# Altium footprint library VALIX.PcbLib: 48 footprints (part 3 of 3)
Each footprint in its own frame and in the unit in brackets; x right, y up, seen from the top. Pads: shape width x height; smd on the part's side, far side on the other; paste and mask are expansions set on the pad; w line width, h text height; cw(c..) or ccw(c..) is an arc to the next point about the centre after c.
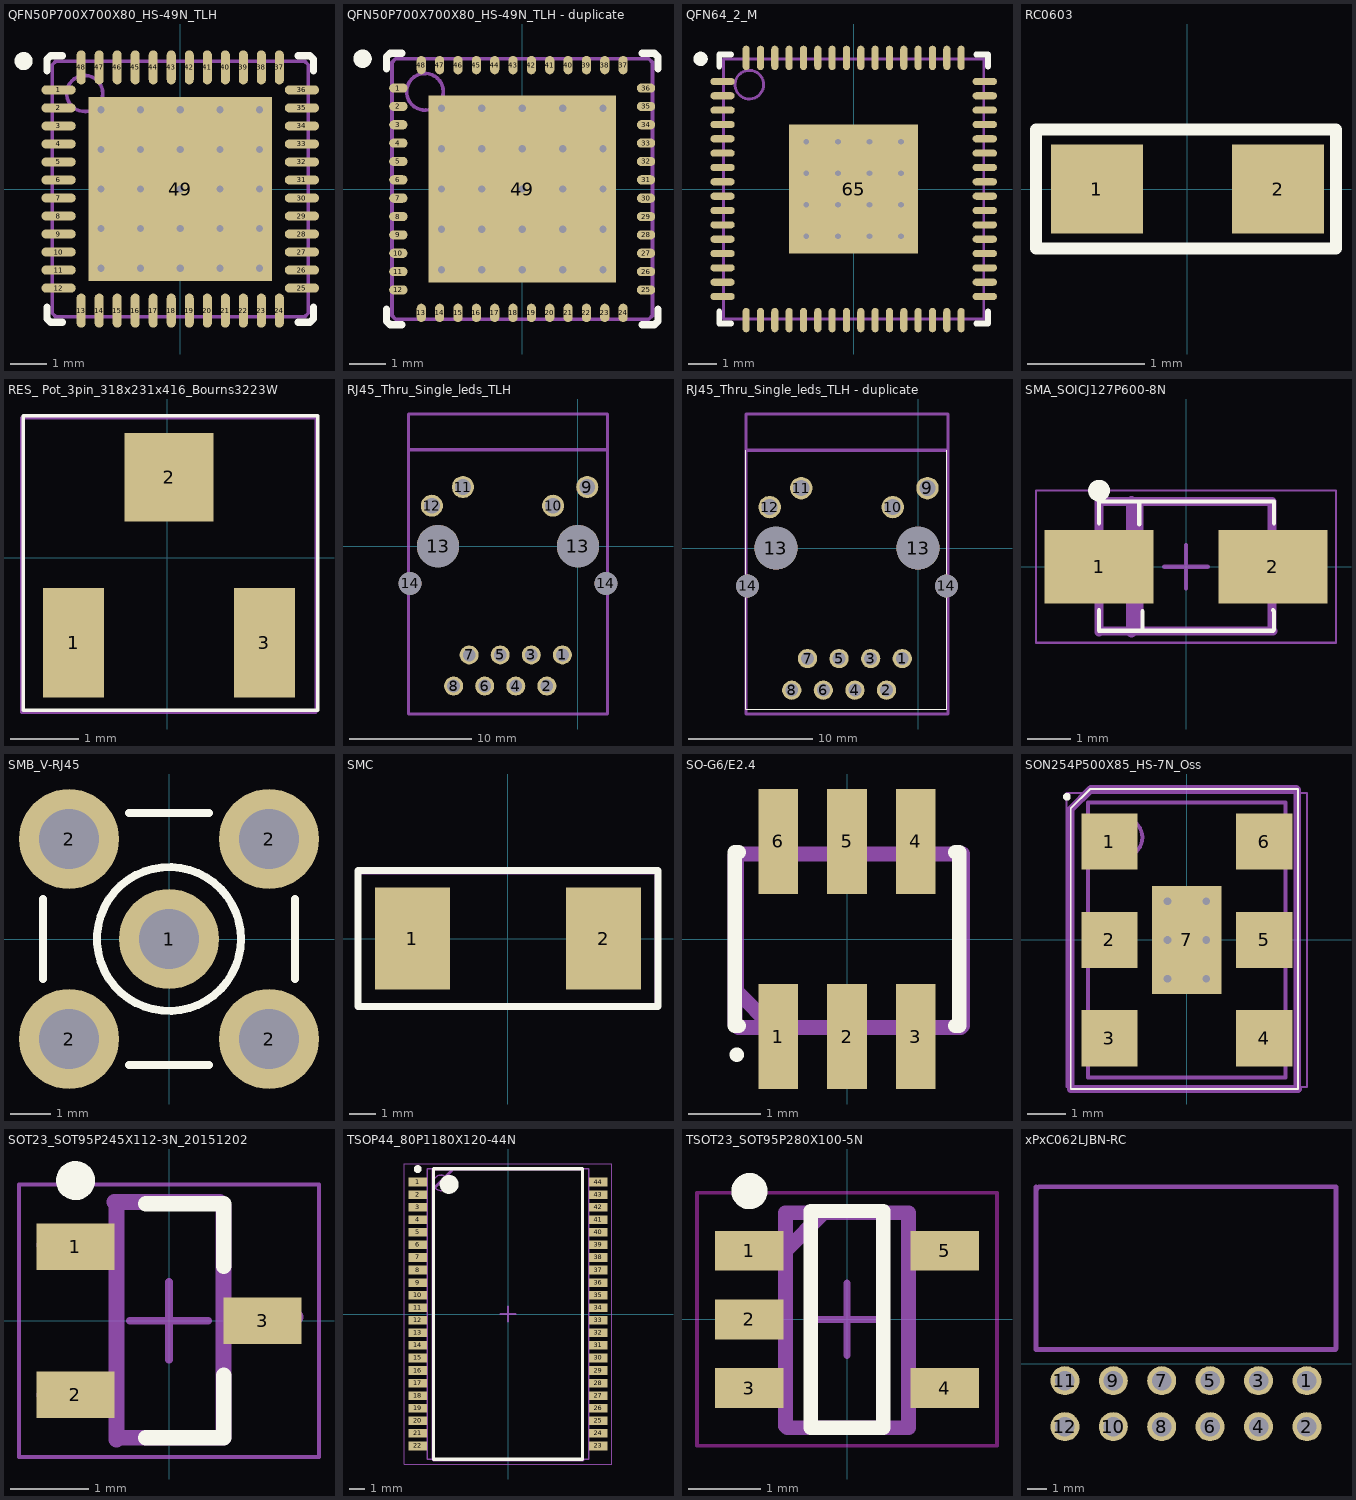
[diagram p2: the footprints below, top view; thin cyan lines are the x and y axes]

## QFN50P700X700X80_HS-49N_TLH [mm] "QFN, 48-Leads, Body 7.00x7.00mm, Pitch 0.50mm, Thermal Pad 5.10x5.10mm, IPC Medium Density"
height 0.8
pads (49):
  oval 0.95x0.25 smd: 1(-3.375,2.75) 2(-3.375,2.25) 3(-3.375,1.75) 4(-3.375,1.25) 5(-3.375,0.75) 6(-3.375,0.25) 7(-3.375,-0.25) 8(-3.375,-0.75) 9(-3.375,-1.25) 10(-3.375,-1.75) 11(-3.375,-2.25) 12(-3.375,-2.75) 25(3.375,-2.75) 26(3.375,-2.25) 27(3.375,-1.75) 28(3.375,-1.25) 29(3.375,-0.75) 30(3.375,-0.25) 31(3.375,0.25) 32(3.375,0.75) 33(3.375,1.25) 34(3.375,1.75) 35(3.375,2.25) 36(3.375,2.75)
  oval 0.25x0.95 smd: 13(-2.75,-3.375) 14(-2.25,-3.375) 15(-1.75,-3.375) 16(-1.25,-3.375) 17(-0.75,-3.375) 18(-0.25,-3.375) 19(0.25,-3.375) 20(0.75,-3.375) 21(1.25,-3.375) 22(1.75,-3.375) 23(2.25,-3.375) 24(2.75,-3.375) 37(2.75,3.375) 38(2.25,3.375) 39(1.75,3.375) 40(1.25,3.375) 41(0.75,3.375) 42(0.25,3.375) 43(-0.25,3.375) 44(-0.75,3.375) 45(-1.25,3.375) 46(-1.75,3.375) 47(-2.25,3.375) 48(-2.75,3.375)
  rect 5.1x5.1 smd: 49(0,0)
via 2.2,-2.2 diameter 0.5 hole 0.2
via 1.1,-2.2 diameter 0.5 hole 0.2
via 0,-2.2 diameter 0.5 hole 0.2
via -1.1,-2.2 diameter 0.5 hole 0.2
via -2.2,-2.2 diameter 0.5 hole 0.2
via 2.2,-1.1 diameter 0.5 hole 0.2
via 1.1,-1.1 diameter 0.5 hole 0.2
via 0,-1.1 diameter 0.5 hole 0.2
via -1.1,-1.1 diameter 0.5 hole 0.2
via -2.2,-1.1 diameter 0.5 hole 0.2
via 2.2,0 diameter 0.5 hole 0.2
via 1.1,0 diameter 0.5 hole 0.2
via 0,0 diameter 0.5 hole 0.2
via -1.1,0 diameter 0.5 hole 0.2
via -2.2,0 diameter 0.5 hole 0.2
via 2.2,1.1 diameter 0.5 hole 0.2
via 1.1,1.1 diameter 0.5 hole 0.2
via 0,1.1 diameter 0.5 hole 0.2
via -1.1,1.1 diameter 0.5 hole 0.2
via -2.2,1.1 diameter 0.5 hole 0.2
via 2.2,2.2 diameter 0.5 hole 0.2
via 1.1,2.2 diameter 0.5 hole 0.2
via 0,2.2 diameter 0.5 hole 0.2
via -1.1,2.2 diameter 0.5 hole 0.2
via -2.2,2.2 diameter 0.5 hole 0.2
Top Overlay:
  circle w0.25: c-4.35,3.55 r0.125
  lines w0.2: -3.7,-3.275 -3.7,-3.6 -3.6,-3.7 -3.275,-3.7 ; -3.7,3.275 -3.7,3.6 -3.6,3.7 -3.275,3.7 ; 3.275,-3.7 3.6,-3.7 3.7,-3.6 3.7,-3.275 ; 3.275,3.7 3.6,3.7 3.7,3.6 3.7,3.275
Mech 13 3D:
  circle w0.1: c-2.65,2.65 r0.5
  lines w0.1: -3.55,-3.45 -3.55,3.45 -3.45,3.55 3.45,3.55 3.55,3.45 3.55,-3.45 3.45,-3.55 -3.45,-3.55 -3.55,-3.45
Mech 15 Keepout:
  lines w0.1: -0.5,0 0.5,0 ; 0,-0.5 0,0.5
3D body: height 0.8, standoff 0.1, extent -3.55,-3.55 3.55,3.55

## QFN50P700X700X80_HS-49N_TLH - duplicate [mm] "QFN, 48-Leads, Body 7.00x7.00mm, Pitch 0.50mm, Thermal Pad 5.10x5.10mm, IPC Medium Density"
height 0.8
pads (49):
  oval 0.5x0.25 smd: 1(-3.375,2.75) 2(-3.375,2.25) 3(-3.375,1.75) 4(-3.375,1.25) 5(-3.375,0.75) 6(-3.375,0.25) 7(-3.375,-0.25) 8(-3.375,-0.75) 9(-3.375,-1.25) 10(-3.375,-1.75) 11(-3.375,-2.25) 12(-3.375,-2.75) 25(3.375,-2.75) 26(3.375,-2.25) 27(3.375,-1.75) 28(3.375,-1.25) 29(3.375,-0.75) 30(3.375,-0.25) 31(3.375,0.25) 32(3.375,0.75) 33(3.375,1.25) 34(3.375,1.75) 35(3.375,2.25) 36(3.375,2.75)
  oval 0.25x0.5 smd: 13(-2.75,-3.375) 14(-2.25,-3.375) 15(-1.75,-3.375) 16(-1.25,-3.375) 17(-0.75,-3.375) 18(-0.25,-3.375) 19(0.25,-3.375) 20(0.75,-3.375) 21(1.25,-3.375) 22(1.75,-3.375) 23(2.25,-3.375) 24(2.75,-3.375) 37(2.75,3.375) 38(2.25,3.375) 39(1.75,3.375) 40(1.25,3.375) 41(0.75,3.375) 42(0.25,3.375) 43(-0.25,3.375) 44(-0.75,3.375) 45(-1.25,3.375) 46(-1.75,3.375) 47(-2.25,3.375) 48(-2.75,3.375)
  rect 5.1x5.1 smd: 49(0,0)
via -2.2,2.2 diameter 0.5 hole 0.2
via -1.1,2.2 diameter 0.5 hole 0.2
via 0,2.2 diameter 0.5 hole 0.2
via 1.1,2.2 diameter 0.5 hole 0.2
via 2.2,2.2 diameter 0.5 hole 0.2
via -2.2,1.1 diameter 0.5 hole 0.2
via -1.1,1.1 diameter 0.5 hole 0.2
via 0,1.1 diameter 0.5 hole 0.2
via 1.1,1.1 diameter 0.5 hole 0.2
via 2.2,1.1 diameter 0.5 hole 0.2
via -2.2,0 diameter 0.5 hole 0.2
via -1.1,0 diameter 0.5 hole 0.2
via 0,0 diameter 0.5 hole 0.2
via 1.1,0 diameter 0.5 hole 0.2
via 2.2,0 diameter 0.5 hole 0.2
via -2.2,-1.1 diameter 0.5 hole 0.2
via -1.1,-1.1 diameter 0.5 hole 0.2
via 0,-1.1 diameter 0.5 hole 0.2
via 1.1,-1.1 diameter 0.5 hole 0.2
via 2.2,-1.1 diameter 0.5 hole 0.2
via -2.2,-2.2 diameter 0.5 hole 0.2
via -1.1,-2.2 diameter 0.5 hole 0.2
via 0,-2.2 diameter 0.5 hole 0.2
via 1.1,-2.2 diameter 0.5 hole 0.2
via 2.2,-2.2 diameter 0.5 hole 0.2
Top Overlay:
  circle w0.25: c-4.35,3.55 r0.125
  lines w0.2: -3.7,-3.275 -3.7,-3.6 -3.6,-3.7 -3.275,-3.7 ; -3.7,3.275 -3.7,3.6 -3.6,3.7 -3.275,3.7 ; 3.275,-3.7 3.6,-3.7 3.7,-3.6 3.7,-3.275 ; 3.275,3.7 3.6,3.7 3.7,3.6 3.7,3.275
Mech 13 3D:
  circle w0.1: c-2.65,2.65 r0.5
  lines w0.1: -3.55,-3.45 -3.45,-3.55 3.45,-3.55 3.55,-3.45 3.55,3.45 3.45,3.55 -3.45,3.55 -3.55,3.45 -3.55,-3.45
Mech 15 Keepout:
  lines w0.1: -0.5,0 0.5,0 ; 0,-0.5 0,0.5
3D body: height 0.8, standoff 0.1, extent -3.55,-3.55 3.55,3.55

## QFN64_2_M [mm] "QFN, 64-Leads, Body 9x9mm, Pitch 0.5mm, Thermal Pad 4.5x4.5mm, IPC Low Density"
height 1
pads (65):
  oval 0.85x0.25 smd: 1(-4.575,3.75) 2(-4.575,3.25) 3(-4.575,2.75) 4(-4.575,2.25) 5(-4.575,1.75) 6(-4.575,1.25) 7(-4.575,0.75) 8(-4.575,0.25) 9(-4.575,-0.25) 10(-4.575,-0.75) 11(-4.575,-1.25) 12(-4.575,-1.75) 13(-4.575,-2.25) 14(-4.575,-2.75) 15(-4.575,-3.25) 16(-4.575,-3.75) 33(4.575,-3.75) 34(4.575,-3.25) 35(4.575,-2.75) 36(4.575,-2.25) 37(4.575,-1.75) 38(4.575,-1.25) 39(4.575,-0.75) 40(4.575,-0.25) 41(4.575,0.25) 42(4.575,0.75) 43(4.575,1.25) 44(4.575,1.75) 45(4.575,2.25) 46(4.575,2.75) 47(4.575,3.25) 48(4.575,3.75)
  oval 0.25x0.85 smd: 17(-3.75,-4.575) 18(-3.25,-4.575) 19(-2.75,-4.575) 20(-2.25,-4.575) 21(-1.75,-4.575) 22(-1.25,-4.575) 23(-0.75,-4.575) 24(-0.25,-4.575) 25(0.25,-4.575) 26(0.75,-4.575) 27(1.25,-4.575) 28(1.75,-4.575) 29(2.25,-4.575) 30(2.75,-4.575) 31(3.25,-4.575) 32(3.75,-4.575) 49(3.75,4.575) 50(3.25,4.575) 51(2.75,4.575) 52(2.25,4.575) 53(1.75,4.575) 54(1.25,4.575) 55(0.75,4.575) 56(0.25,4.575) 57(-0.25,4.575) 58(-0.75,4.575) 59(-1.25,4.575) 60(-1.75,4.575) 61(-2.25,4.575) 62(-2.75,4.575) 63(-3.25,4.575) 64(-3.75,4.575)
  rect 4.5x4.5 smd: 65(0,0)
via -1.65,1.65 diameter 0.5 hole 0.2
via -0.55,1.65 diameter 0.5 hole 0.2
via 0.55,1.65 diameter 0.5 hole 0.2
via 1.65,1.65 diameter 0.5 hole 0.2
via -1.65,0.55 diameter 0.5 hole 0.2
via -0.55,0.55 diameter 0.5 hole 0.2
via 0.55,0.55 diameter 0.5 hole 0.2
via 1.65,0.55 diameter 0.5 hole 0.2
via -1.65,-0.55 diameter 0.5 hole 0.2
via -0.55,-0.55 diameter 0.5 hole 0.2
via 0.55,-0.55 diameter 0.5 hole 0.2
via 1.65,-0.55 diameter 0.5 hole 0.2
via -1.65,-1.65 diameter 0.5 hole 0.2
via -0.55,-1.65 diameter 0.5 hole 0.2
via 0.55,-1.65 diameter 0.5 hole 0.2
via 1.65,-1.65 diameter 0.5 hole 0.2
Top Overlay:
  circle w0.25: c-5.34,4.54 r0.125
  lines w0.2: -4.69,-4.275 -4.69,-4.69 -4.275,-4.69 ; -4.69,4.275 -4.69,4.69 -4.275,4.69 ; 4.275,-4.69 4.69,-4.69 4.69,-4.275 ; 4.275,4.69 4.69,4.69 4.69,4.275
Mech 13 3D:
  circle w0.1: c-3.64,3.64 r0.5
  lines w0.1: -4.54,-4.54 -4.54,4.54 4.54,4.54 4.54,-4.54 -4.54,-4.54
Mech 15 Keepout:
  lines w0.1: -0.5,0 0.5,0 ; 0,-0.5 0,0.5
3D body: height 1, standoff 0, extent -4.54,-4.54 4.54,4.54

## RC0603 [mil]
height 60
pads (2):
  rect 31x30 smd: 1(-30.5,0) 2(30.5,0)
Top Overlay:
  lines w3.94: -51,20 -51,-5 -51,-20 50,-20 50,20 27.5,20 -27.5,20 -50,20
3D body "MCT 0603.stp": height 17.72, standoff 0, extent -30.02,-18 31,15.46

## RES_ Pot_3pin_318x231x416_Bourns3223W [mm]
height 4
pads (3):
  rect 0.9x1.6 smd: 1(-1.375,-1.25) 3(1.425,-1.25)
  rect 1.3x1.3 smd: 2(0.025,1.18)
Top Overlay:
  lines w0.05: -2.112,-2.241 2.206,-2.241 2.206,2.077 -2.112,2.077 -2.112,-2.241
Assy Top:
  lines w0.05: -2.137,-2.266 -2.137,2.052 2.181,2.052 2.181,-2.266 -2.137,-2.266
3D body "3223W.stp": height 4.19, standoff 0.01, extent -1.898,-1.875 1.998,1.64

## RJ45_Thru_Single_leds_TLH [mil]
pads (16):
  round 61.02 hole 40.94: 1(-50,-350) 2(-100,-450) 3(-150,-350) 4(-200,-450) 5(-250,-350) 6(-300,-450) 7(-350,-350) 8(-400,-450)
  round 71 hole 51: 9(30,190) 10(-80,130) 11(-370,190) 12(-470,130)
  round 136 hole 136 unplated: 13(-450,0) 13(0,0)
  round 73 hole 73 unplated: 14(-540,-120) 14(90,-120)
Mechanical 1:
  lines w10: -545,310 -545,425 95,425 95,310 ; -545,310 -545,-540 95,-540 95,310 ; -545,310 95,310

## RJ45_Thru_Single_leds_TLH - duplicate [mil]
pads (16):
  round 61.02 hole 40.94: 1(-50,-350) 2(-100,-450) 3(-150,-350) 4(-200,-450) 5(-250,-350) 6(-300,-450) 7(-350,-350) 8(-400,-450)
  round 71 hole 51: 9(30,190) 10(-80,130) 11(-370,190) 12(-470,130)
  round 136 hole 136 unplated: 13(-450,0) 13(0,0)
  round 73 hole 73 unplated: 14(-540,-120) 14(90,-120)
Top Overlay:
  lines w3.94: -546.26,310.04 -546.26,-510.83 90.55,-510.83 90.55,310.04
Mechanical 1:
  lines w10: -545,310 95,310 ; -545,310 -545,-525.59 95,-525.59 95,310 ; -545,310 -545,425 95,425 95,310

## SMA_SOICJ127P600-8N [mm] "SMA Diode"
height 2.5
pads (2):
  rect 2.5x1.7 smd: 1(-2,0) 2(2,0)
Top Overlay:
  circle w0.25: c-2,1.75 r0.125
  lines w0.1: -2,-1 -2,-1.475 2,-1.475 2.025,-1.45 2.025,-1.025 2,-1 ; -2,1 -2,1.55 -1.95,1.5 2.025,1.5 2.025,1 ; -1.075,0.975 -1.075,1.5 ; -1,-1.45 -1,-1.025
Mechanical 1:
  lines w0.254: -1.25,-1.5 -1.25,1.5
Assy Top:
  lines w0.203: -1.075,-1.4 -1.075,1.5 ; -2,-1.5 -2,1.475 -1.975,1.5 1.975,1.5 1.975,-1.45 2,-1.475 -1.975,-1.475 -2,-1.5
  text ".Designator" at -0.775,-0.15 h0.51
Mech 13 3D:
  lines w0.1: -2,-1.5 2,-1.5 2,1.5 1.875,1.5 -0.125,1.5 -2,1.5 -2,-1.5
Mech 15 Keepout:
  lines w0.05: -3.45,-1.75 3.45,-1.75 3.45,1.75 -3.45,1.75 -3.45,-1.75
  lines w0.1: -0.5,0 0.5,0 ; 0,-0.5 0,0.5
3D body "Diode SMA.stp": height 2.41, standoff 0, extent -2.53,-1.46 2.75,1.46

## SMB_V-RJ45 [mm] "Connector; SMB Straight"
pads (5):
  round 2.5 hole 1.5: 1(0,0) 2(-2.5,-2.5) 2(-2.5,2.5) 2(2.5,-2.5) 2(2.5,2.5)
Top Overlay:
  circle w0.2: c0,0 r1.8
  lines w0.2: -3.15,-1 -3.15,1 ; -1,-3.15 1,-3.15 ; -1,3.15 1,3.15 ; 3.15,-1 3.15,1
Mechanical 1:
  circle w0.025: c0,0 r1.8
  circle w0.025: c0,0 r1.05
  circle w0.025: c0,0 r0.2

## SMC [mil]
pads (2):
  rect 110x150 smd: 1(-140.49,0) 2(140.49,0)
Top Overlay:
  lines w10: -220.49,-100 220.49,-100 220.49,100 -220.49,100 -220.49,0 -220.49,-100
Assy Top:
  lines w8: -220.47,96.46 -220.47,-100.39 -219.49,-101.38 219.49,-101.38 219.49,99.41 218.5,98.43 -218.5,98.43
  text ".Designator" at -146.65,3.94 h50
3D body: height 0, standoff 0, extent -199.49,-79 199.49,79
3D body: height 0, standoff 0, extent -225.49,-105 225.49,105

## SO-G6/E2.4 [mm] "Small Outline; 6 Leads; Body 3.6 x 3.6 mm, inc. leads (LxW max)"
height 1.4
pads (6):
  rect 0.55x1.45 smd: 1(-0.95,-1.35) 2(0,-1.35) 3(0.95,-1.35) 4(0.95,1.35) 5(0,1.35) 6(-0.95,1.35)
Top Overlay:
  circle w0.1: c-1.525,-1.6 r0.05
  lines w0.2: -1.5,-1.2 -1.55,-1.2 -1.55,1.2 -1.5,1.2 ; 1.5,-1.2 1.55,-1.2 1.55,1.2 1.5,1.2
Assy Top:
  lines w0.203: -1.025,-1.275 -1.025,-1.225 -1.525,-0.725 -1.525,1.175 ; -1.525,1.175 1.6,1.175 1.6,-1.2 1.575,-1.225 -1.5,-1.225 -1.55,-1.175 -1.55,1.15 -1.525,1.175
  text ".Designator" at -1.15,-0.225 h0.51
3D body "sot-23-6.stp": height 1.12, standoff 0, extent -1.461,-1.622 1.461,1.222

## SON254P500X85_HS-7N_Oss [mm] "SON, 6-Leads, Body 7.00x5.00mm, Pitch 2.54mm, Thermal Pad 2.80x1.80mm, IPC Medium Density"
height 0.85
pads (7):
  rect 1.45x1.45 smd: 1(-2,2.54) 2(-2,0) 3(-2,-2.54) 4(2,-2.54) 5(2,0) 6(2,2.54)
  rect 1.8x2.8 smd: 7(0,0)
via -0.5,1 diameter 0.5 hole 0.2
via 0.5,1 diameter 0.5 hole 0.2
via -0.5,0 diameter 0.5 hole 0.2
via 0.5,0 diameter 0.5 hole 0.2
via -0.5,-1 diameter 0.5 hole 0.2
via 0.5,-1 diameter 0.5 hole 0.2
Top Overlay:
  circle w0.1: c-3.1,3.7 r0.05
  lines w0.05: -3,-3.85 2.875,-3.85 2.875,3.9 -2.5,3.9 -3,3.4 -3,3.375 -3,-3.85
Assy Top:
  lines w0.203: -3,-3.85 2.875,-3.85 2.85,-3.825 2.85,3.875 2.825,3.9 -2.475,3.9 -3,3.375 -3,-3.85
  text ".Designator" at -2.2,1.175 h1.27
Mech 13 3D:
  circle w0.1: c-1.65,2.65 r0.5
  lines w0.1: -2.55,-3.55 -2.55,3.55 2.55,3.55 2.55,-3.55 -2.55,-3.55
Mech 15 Keepout:
  lines w0.05: -3.105,-3.8 -3.105,3.8 3.105,3.8 3.105,-3.8 -3.105,-3.8
  lines w0.1: -0.5,0 0.5,0 ; 0,-0.5 0,0.5
3D body: height 0.85, standoff 0.01, extent -2.55,-3.55 2.55,3.55

## SOT23_SOT95P245X112-3N_20151202 [mm] "SOT23, 3-Leads, Body 2.92x2.45mm, Pitch 0.95mm, IPC Medium Density"
height 1.12
pads (3):
  rect 1x0.6 smd: 1(-1.2,0.95) 2(-1.2,-0.95) 3(1.2,0)
Top Overlay:
  circle w0.25: c-1.2,1.8 r0.125
  lines w0.2: -0.3,-1.5 0.7,-1.5 0.7,-0.7 ; -0.3,1.5 0.7,1.5 0.7,0.7
Assy Top:
  lines w0.203: -1.6,-0.95 -0.675,-0.95 ; -1.6,0.975 -0.725,0.975 ; 0.725,0.05 1.625,0.05 ; -0.7,1.525 -0.675,1.5 -0.675,-1.525 -0.65,-1.5 0.7,-1.5 0.7,1.475 0.65,1.525 -0.7,1.525
  text ".Designator" at -1.55,-2.3 h0.51
Mech 13 3D:
  lines w0.1: -0.7,-1.52 -0.7,1.52 0.7,1.52 0.7,-1.52 -0.7,-1.52
Mech 15 Keepout:
  lines w0.05: -1.925,-1.75 -1.925,1.75 1.925,1.75 1.925,-1.75 -1.925,-1.75
  lines w0.1: -0.5,0 0.5,0 ; 0,-0.5 0,0.5
3D body: height 1.12, standoff 0.1, extent -0.7,-1.52 0.7,1.52
3D body "SOT23-3.stp": height 1.2, standoff 0.02, extent -1.343,-1.525 1.493,1.475

## TSOP44_80P1180X120-44N [mm] "TSOP, 44-Leads, Body 18.41x10.16mm, Pitch 0.80mm, IPC Medium Density"
height 1.2
pads (44):
  rect 1.2x0.55 smd: 1(-5.75,8.4) 2(-5.75,7.6) 3(-5.75,6.8) 4(-5.75,6) 5(-5.75,5.2) 6(-5.75,4.4) 7(-5.75,3.6) 8(-5.75,2.8) 9(-5.75,2) 10(-5.75,1.2) 11(-5.75,0.4) 12(-5.75,-0.4) 13(-5.75,-1.2) 14(-5.75,-2) 15(-5.75,-2.8) 16(-5.75,-3.6) 17(-5.75,-4.4) 18(-5.75,-5.2) 19(-5.75,-6) 20(-5.75,-6.8) 21(-5.75,-7.6) 22(-5.75,-8.4) 23(5.75,-8.4) 24(5.75,-7.6) 25(5.75,-6.8) 26(5.75,-6) 27(5.75,-5.2) 28(5.75,-4.4) 29(5.75,-3.6) 30(5.75,-2.8) 31(5.75,-2) 32(5.75,-1.2) 33(5.75,-0.4) 34(5.75,0.4) 35(5.75,1.2) 36(5.75,2) 37(5.75,2.8) 38(5.75,3.6) 39(5.75,4.4) 40(5.75,5.2) 41(5.75,6) 42(5.75,6.8) 43(5.75,7.6) 44(5.75,8.4)
Top Overlay:
  circle w0.6: c-3.75,8.25 r0.3
  circle w0.25: c-5.75,9.225 r0.125
  lines w0.2: -4.75,-9.25 4.75,-9.25 4.75,9.25 -4.75,9.25 -4.75,-9.25
Assy Top:
  lines w0.203: -4.775,8.025 -4.7,8.025 -3.5,9.225 ; -4.775,9.175 -4.775,-9.25 -4.75,-9.275 4.775,-9.275 4.75,-9.25 4.75,9.225 -4.725,9.225
  text ".Designator" at -2.8,3.225 h1.27
Mech 13 3D:
  circle w0.1: c-4.25,8.35 r0.5
  lines w0.1: -5.15,-9.25 5.15,-9.25 5.15,9.25 -5.15,9.25 -5.15,-9.25
Mech 15 Keepout:
  lines w0.05: -6.6,-9.55 6.6,-9.55 6.6,9.55 -6.6,9.55 -6.6,-9.55
  lines w0.1: -0.5,0 0.5,0 ; 0,-0.5 0,0.5
3D body: height 1.2, standoff 0.1, extent -5.15,-9.25 5.15,9.25

## TSOT23_SOT95P280X100-5N [mm] "SOT23, 5-Leads, Body 2.90x2.80mm, Pitch 0.95mm, IPC Medium Density"
height 1
pads (5):
  rect 0.95x0.55 smd: 1(-1.35,0.95) 2(-1.35,0) 3(-1.35,-0.95) 4(1.35,-0.95) 5(1.35,0.95)
Top Overlay:
  circle w0.25: c-1.35,1.775 r0.125
  lines w0.2: -0.5,-1.5 -0.5,1.5 0.5,1.5 0.5,-1.5 -0.5,-1.5
Keep-Out Layer:
  lines w0.05: -2.075,-1.75 -2.075,1.75 2.075,1.75 2.075,-1.75 -2.075,-1.75
Assy Top:
  lines w0.203: -0.325,1.475 -0.85,0.95 -0.85,1.475 ; -0.85,1.475 -0.85,-1.475 -0.825,-1.5 0.85,-1.5 0.85,1.475 -0.85,1.475
  text ".Designator" at -1.425,-2.45 h0.51
Mech 13 3D:
  lines w0.1: -0.875,-1.5 0.875,-1.5 0.875,1.5 -0.875,1.5 -0.875,-1.5
Mech 15 Keepout:
  lines w0.1: -0.5,0 0.5,0 ; 0,-0.5 0,0.5
3D body: height 1, standoff 0.05, extent -0.875,-1.5 0.875,1.5
3D body "SOT23_5.stp": height 0.92, standoff 0.01, extent -1.602,-1.5 1.602,1.5

## xPxC062LJBN-RC [mil] "Connector Header 2x6 100x100 Female RT Thru Sullins"
height 200
pads (12):
  round 60 hole 40.16: 1(655,-35) 2(655,-130) 3(555,-35) 4(555,-130) 5(455,-35) 6(455,-130) 7(355,-35) 8(355,-130) 9(255,-35) 10(255,-130) 11(155,-35) 12(155,-130)
Mechanical 1:
  lines w10: 95.31,360 100.83,365.51 715,365.51 ; 95.31,365.51 95.31,29.69 ; 95.31,29.69 713.82,29.69 715,30.87 715,365.51 ; 95.31,29.69 95.31,29.69 ; 715,365.51 715,365.51
3D body "10494, xPxC062LJBN-RC.STEP": height 200.5, standoff -123.52, extent 95.31,-140 715,365.51